# Altium integrated library B330A.IntLib: 1 symbol
Pins are listed as number, name and electrical type; pins without a type are passive.

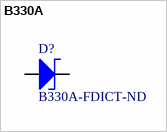
[diagram p0: symbol B330A]

## B330A
designator D?, comment B330A-FDICT-ND
BUY_LINK: http://www.digikey.com/product-detail/en/B330A-13-F/B330A-FDICT-ND/815332; PRICE: 0.49000; ID: B330A-FDICT-ND; PDF: http://www.diodes.com/datasheets/ds30891.pdf
footprint SMA
pins: A, C